# Altium footprint library ANT_PCB.PcbLib: 2 footprints
Each footprint in its own frame and in the unit in brackets; x right, y up, seen from the top. Pads: shape width x height; smd on the part's side, far side on the other; paste and mask are expansions set on the pad; w line width, h text height; cw(c..) or ccw(c..) is an arc to the next point about the centre after c.
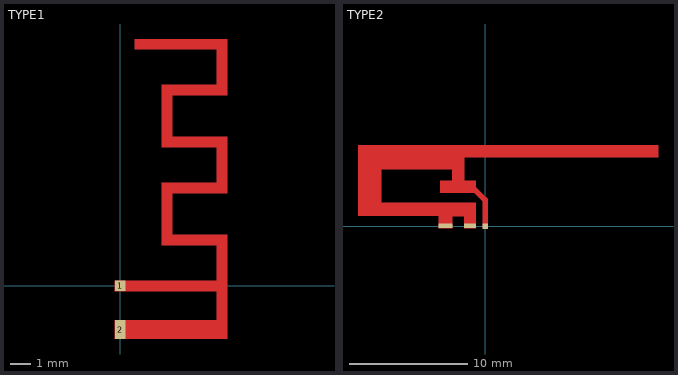
[diagram p0: the footprints below, top view; thin cyan lines are the x and y axes]

## TYPE1 [mm]
pads (2):
  rect 0.5x0.5 smd: 1(0,0)
  rect 0.5x0.9 smd: 2(0,-2.1)
Top Layer:
  region: -0.25,-2.55 5.15,-2.55 5.15,2.45 2.51,2.45 2.51,4.45 5.15,4.45 5.15,7.15 2.51,7.15 2.51,9.15 5.15,9.15 5.15,11.85 0.71,11.85 0.71,11.35 4.65,11.35 4.65,9.65 2.01,9.65 2.01,6.65 4.65,6.65 4.65,4.95 2.01,4.95 2.01,1.95 4.65,1.95 4.65,0.25 -0.25,0.25 -0.25,-0.25 4.65,-0.25 4.65,-1.65 -0.25,-1.65

## TYPE2 [mm]
pads (3):
  rect 0.46x0.46 smd: 1(0,0)
  rect 1.148x0.4 smd: 2(-3.362,0.027)
  rect 1.001x0.4 smd: 2(-1.287,0.027)
Top Layer:
  region: -0.787,-0.173 -1.788,-0.173 -1.788,0.828 -2.789,0.828 -2.789,-0.173 -3.937,-0.173 -3.937,0.868 -10.77,0.868 -10.77,6.837 14.63,6.837 14.63,5.826 -1.788,5.826 -1.788,3.828 -0.787,3.828 -0.787,2.827 -3.787,2.827 -3.787,3.828 -2.789,3.828 -2.789,4.828 -8.788,4.828 -8.788,1.961 -0.787,1.961
  lines w0.46: -1.148,3.37 0,2.222 0,0